# Altium footprint library AMP Footprints.PcbLib: 903 footprints (part 1 of 58)
Each footprint in its own frame and in the unit in brackets; x right, y up, seen from the top. Pads: shape width x height; smd on the part's side, far side on the other; paste and mask are expansions set on the pad; w line width, h text height; cw(c..) or ccw(c..) is an arc to the next point about the centre after c.
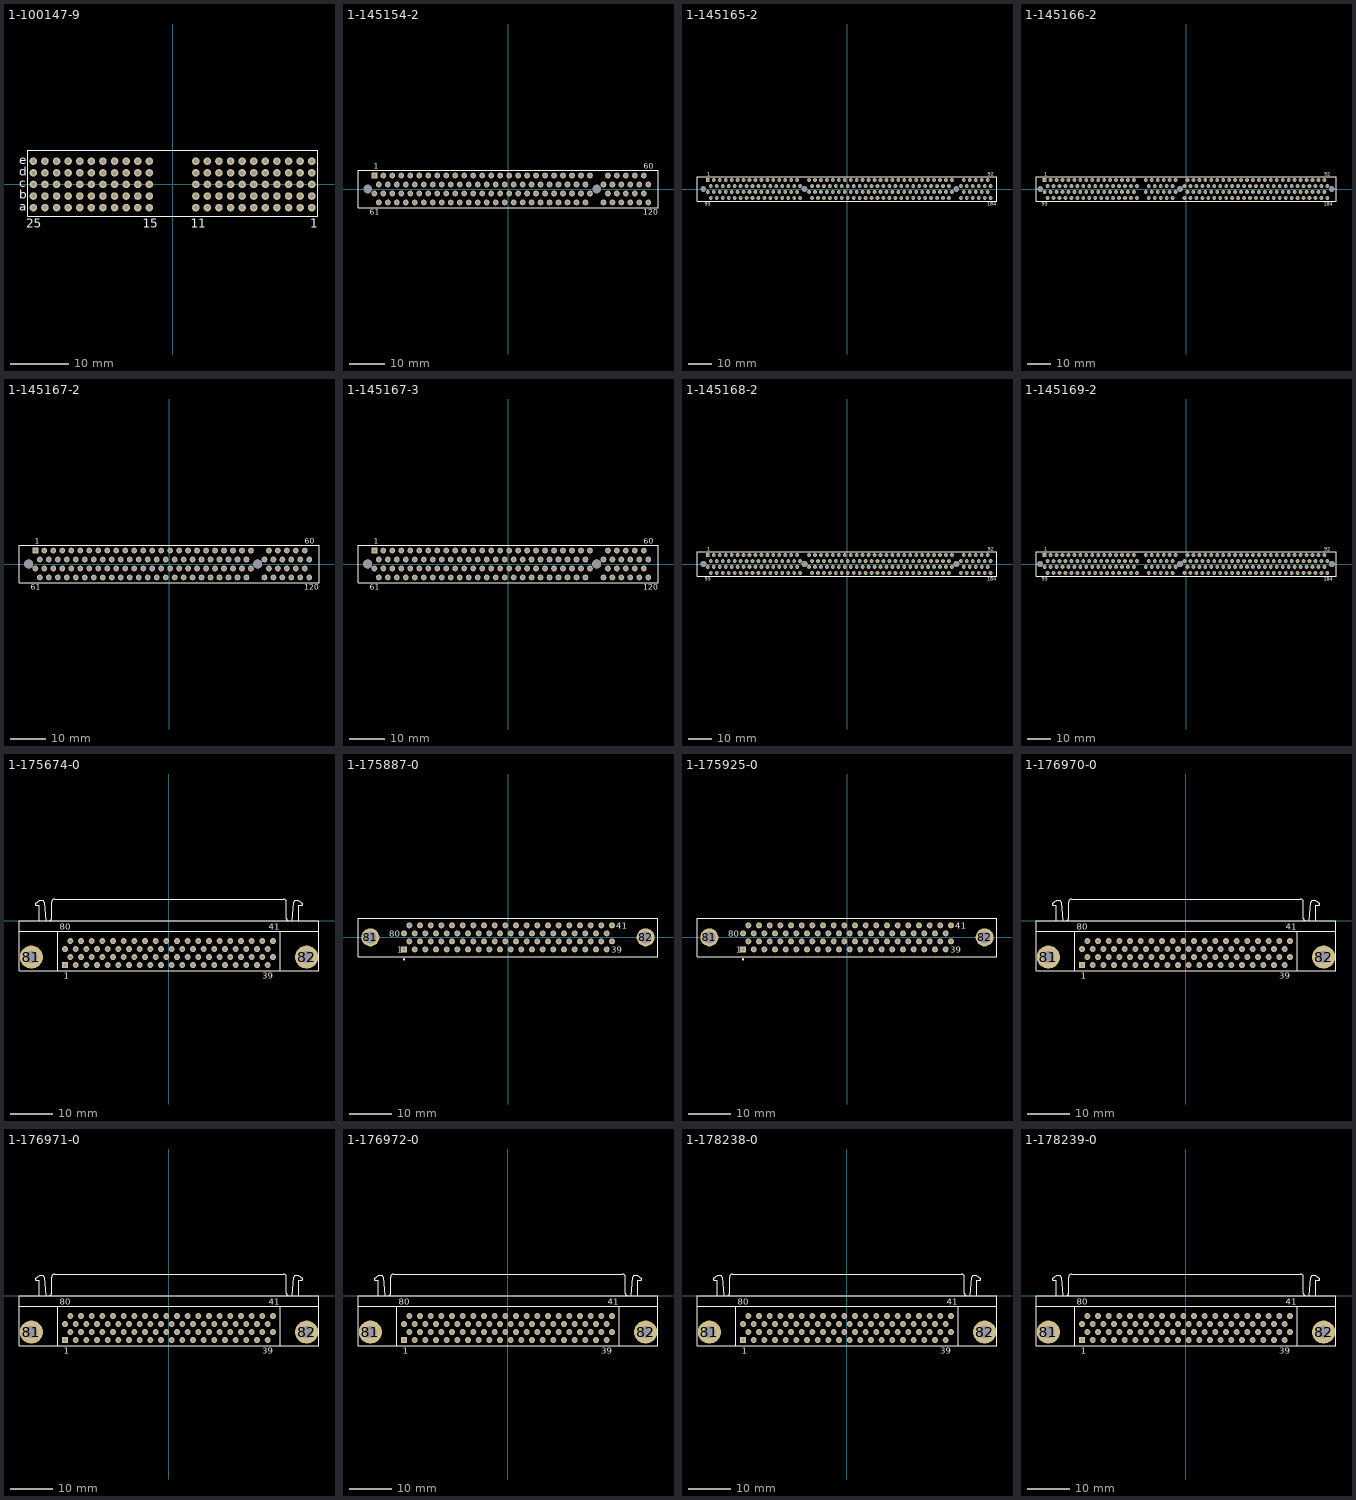
[diagram p0: the footprints below, top view; thin cyan lines are the x and y axes]

## 1-100147-9 [mm] "Connector; CompactPCI; 110 Position; Right Angle"
height 8.125
pads (110):
  round 1.3 hole 0.7: A1(24,-4) A2(22,-4) A3(20,-4) A4(18,-4) A5(16,-4) A6(14,-4) A7(12,-4) A8(10,-4) A9(8,-4) A10(6,-4) A11(4,-4) A15(-4,-4) A16(-6,-4) A17(-8,-4) A18(-10,-4) A19(-12,-4) A20(-14,-4) A21(-16,-4) A22(-18,-4) A23(-20,-4) A24(-22,-4) A25(-24,-4) B1(24,-2) B2(22,-2) B3(20,-2) B4(18,-2) B5(16,-2) B6(14,-2) B7(12,-2) B8(10,-2) B9(8,-2) B10(6,-2) B11(4,-2) B15(-4,-2) B16(-6,-2) B17(-8,-2) B18(-10,-2) B19(-12,-2) B20(-14,-2) B21(-16,-2) B22(-18,-2) B23(-20,-2) B24(-22,-2) B25(-24,-2) C1(24,0) C2(22,0) C3(20,0) C4(18,0) C5(16,0) C6(14,0) C7(12,0) C8(10,0) C9(8,0) C10(6,0) C11(4,0) C15(-4,0) C16(-6,0) C17(-8,0) C18(-10,0) C19(-12,0) C20(-14,0) C21(-16,0) C22(-18,0) C23(-20,0) C24(-22,0) C25(-24,0) D1(24,2) D2(22,2) D3(20,2) D4(18,2) D5(16,2) D6(14,2) D7(12,2) D8(10,2) D9(8,2) D10(6,2) D11(4,2) D15(-4,2) D16(-6,2) D17(-8,2) D18(-10,2) D19(-12,2) D20(-14,2) D21(-16,2) D22(-18,2) D23(-20,2) D24(-22,2) D25(-24,2) E1(24,4) E2(22,4) E3(20,4) E4(18,4) E5(16,4) E6(14,4) E7(12,4) E8(10,4) E9(8,4) E10(6,4) E11(4,4) E15(-4,4) E16(-6,4) E17(-8,4) E18(-10,4) E19(-12,4) E20(-14,4) E21(-16,4) E22(-18,4) E23(-20,4) E24(-22,4) E25(-24,4)
Top Overlay:
  lines w0.2: -25,-5.5 -25,5.9 25,5.9 25,-5.5 -25,-5.5
  text "25" at -25.25,-7.475 h1.5
  text "15" at -5.125,-7.475 h1.5
  text "11" at 3.125,-7.475 h1.5
  text "1" at 23.75,-7.475 h1.5
  text "a" at -26.475,-4.5 h1.5
  text "b" at -26.475,-2.5 h1.5
  text "c" at -26.475,-0.5 h1.5
  text "d" at -26.475,1.5 h1.5
  text "e" at -26.475,3.5 h1.5

## 1-145154-2 [mm] "Connector; Card Edge .050 Series PCI; 2x60 Position; 32-Bit Bus"
height 15.74
pads (122):
  rect 1.62x1.62 hole 1.02: 1(-37.782,3.81)
  round 1.62 hole 1.02: 2(-36.512,1.27) 3(-35.242,3.81) 4(-33.972,1.27) 5(-32.703,3.81) 6(-31.432,1.27) 7(-30.162,3.81) 8(-28.892,1.27) 9(-27.622,3.81) 10(-26.352,1.27) 11(-25.082,3.81) 12(-23.812,1.27) 13(-22.543,3.81) 14(-21.273,1.27) 15(-20.002,3.81) 16(-18.732,1.27) 17(-17.462,3.81) 18(-16.192,1.27) 19(-14.922,3.81) 20(-13.652,1.27) 21(-12.383,3.81) 22(-11.112,1.27) 23(-9.842,3.81) 24(-8.572,1.27) 25(-7.302,3.81) 26(-6.032,1.27) 27(-4.763,3.81) 28(-3.492,1.27) 29(-2.222,3.81) 30(-0.953,1.27) 31(0.318,3.81) 32(1.587,1.27) 33(2.857,3.81) 34(4.127,1.27) 35(5.397,3.81) 36(6.667,1.27) 37(7.938,3.81) 38(9.207,1.27) 39(10.477,3.81) 40(11.747,1.27) 41(13.018,3.81) 42(14.287,1.27) 43(15.557,3.81) 44(16.828,1.27) 45(18.098,3.81) 46(19.367,1.27) 47(20.637,3.81) 48(21.907,1.27) 49(23.177,3.81) 50(26.987,1.27) 51(28.258,3.81) 52(29.527,1.27) 53(30.797,3.81) 54(32.067,1.27) 55(33.337,3.81) 56(34.608,1.27) 57(35.877,3.81) 58(37.148,1.27) 59(38.417,3.81) 60(39.688,1.27) 61(-37.782,-1.27) 62(-36.512,-3.81) 63(-35.242,-1.27) 64(-33.972,-3.81) 65(-32.703,-1.27) 66(-31.432,-3.81) 67(-30.162,-1.27) 68(-28.892,-3.81) 69(-27.622,-1.27) 70(-26.352,-3.81) 71(-25.082,-1.27) 72(-23.812,-3.81) 73(-22.543,-1.27) 74(-21.273,-3.81) 75(-20.002,-1.27) 76(-18.732,-3.81) 77(-17.462,-1.27) 78(-16.192,-3.81) 79(-14.922,-1.27) 80(-13.652,-3.81) 81(-12.383,-1.27) 82(-11.112,-3.81) 83(-9.842,-1.27) 84(-8.572,-3.81) 85(-7.302,-1.27) 86(-6.032,-3.81) 87(-4.763,-1.27) 88(-3.492,-3.81) 89(-2.222,-1.27) 90(-0.953,-3.81) 91(0.318,-1.27) 92(1.587,-3.81) 93(2.857,-1.27) 94(4.127,-3.81) 95(5.397,-1.27) 96(6.667,-3.81) 97(7.938,-1.27) 98(9.207,-3.81) 99(10.477,-1.27) 100(11.747,-3.81) 101(13.018,-1.27) 102(14.287,-3.81) 103(15.557,-1.27) 104(16.828,-3.81) 105(18.098,-1.27) 106(19.367,-3.81) 107(20.637,-1.27) 108(21.907,-3.81) 109(23.177,-1.27) 110(26.987,-3.81) 111(28.258,-1.27) 112(29.527,-3.81) 113(30.797,-1.27) 114(32.067,-3.81) 115(33.337,-1.27) 116(34.608,-3.81) 117(35.877,-1.27) 118(37.148,-3.81) 119(38.417,-1.27) 120(39.688,-3.81)
  round 2.14 hole 2.44: 121(-39.688,0) 122(25.082,0)
Top Overlay:
  lines w0.2: -42.42,-5.26 -42.42,5.26 42.42,5.26 42.42,-5.26 -42.42,-5.26
  text "61" at -39.033,-7.235 h1.5
  text "1" at -38.032,5.735 h1.5
  text "60" at 38.437,5.735 h1.5
  text "120" at 38.188,-7.235 h1.5

## 1-145165-2 [mm] "Connector; Card Edge .050 Series PCI; 2x92 Position; 64-Bit Bus"
height 15.74
pads (187):
  rect 1.62x1.62 hole 1.02: 1(-59.372,3.81)
  round 1.62 hole 1.02: 2(-58.102,1.27) 3(-56.832,3.81) 4(-55.562,1.27) 5(-54.292,3.81) 6(-53.023,1.27) 7(-51.752,3.81) 8(-50.482,1.27) 9(-49.212,3.81) 10(-47.942,1.27) 11(-46.672,3.81) 12(-45.402,1.27) 13(-44.133,3.81) 14(-42.862,1.27) 15(-41.593,3.81) 16(-40.322,1.27) 17(-39.052,3.81) 18(-37.782,1.27) 19(-36.512,3.81) 20(-35.242,1.27) 21(-33.972,3.81) 22(-32.703,1.27) 23(-31.432,3.81) 24(-30.162,1.27) 25(-28.892,3.81) 26(-27.622,1.27) 27(-26.352,3.81) 28(-25.082,1.27) 29(-23.812,3.81) 30(-22.543,1.27) 31(-21.273,3.81) 32(-20.002,1.27) 33(-16.192,3.81) 34(-14.922,1.27) 35(-13.652,3.81) 36(-12.383,1.27) 37(-11.112,3.81) 38(-9.842,1.27) 39(-8.572,3.81) 40(-7.302,1.27) 41(-6.032,3.81) 42(-4.763,1.27) 43(-3.492,3.81) 44(-2.222,1.27) 45(-0.953,3.81) 46(0.318,1.27) 47(1.587,3.81) 48(2.857,1.27) 49(4.127,3.81) 50(5.397,1.27) 51(6.667,3.81) 52(7.938,1.27) 53(9.207,3.81) 54(10.477,1.27) 55(11.747,3.81) 56(13.018,1.27) 57(14.287,3.81) 58(15.557,1.27) 59(16.828,3.81) 60(18.098,1.27) 61(19.367,3.81) 62(20.637,1.27) 63(21.907,3.81) 64(23.177,1.27) 65(24.447,3.81) 66(25.717,1.27) 67(26.987,3.81) 68(28.258,1.27) 69(29.527,3.81) 70(30.797,1.27) 71(32.067,3.81) 72(33.337,1.27) 73(34.608,3.81) 74(35.877,1.27) 75(37.148,3.81) 76(38.417,1.27) 77(39.688,3.81) 78(40.957,1.27) 79(42.227,3.81) 80(43.497,1.27) 81(44.767,3.81) 82(48.578,1.27) 83(49.847,3.81) 84(51.117,1.27) 85(52.387,3.81) 86(53.657,1.27) 87(54.927,3.81) 88(56.197,1.27) 89(57.468,3.81) 90(58.737,1.27) 91(60.008,3.81) 92(61.277,1.27) 93(-59.372,-1.27) 94(-58.102,-3.81) 95(-56.832,-1.27) 96(-55.562,-3.81) 97(-54.292,-1.27) 98(-53.023,-3.81) 99(-51.752,-1.27) 100(-50.482,-3.81) 101(-49.212,-1.27) 102(-47.942,-3.81) 103(-46.672,-1.27) 104(-45.402,-3.81) 105(-44.133,-1.27) 106(-42.862,-3.81) 107(-41.593,-1.27) 108(-40.322,-3.81) 109(-39.052,-1.27) 110(-37.782,-3.81) 111(-36.512,-1.27) 112(-35.242,-3.81) 113(-33.972,-1.27) 114(-32.703,-3.81) 115(-31.432,-1.27) 116(-30.162,-3.81) 117(-28.892,-1.27) 118(-27.622,-3.81) 119(-26.352,-1.27) 120(-25.082,-3.81) 121(-23.812,-1.27) 122(-22.543,-3.81) 123(-21.273,-1.27) 124(-20.002,-3.81) 125(-16.192,-1.27) 126(-14.922,-3.81) 127(-13.652,-1.27) 128(-12.383,-3.81) 129(-11.112,-1.27) 130(-9.842,-3.81) 131(-8.572,-1.27) 132(-7.302,-3.81) 133(-6.032,-1.27) 134(-4.763,-3.81) 135(-3.492,-1.27) 136(-2.222,-3.81) 137(-0.953,-1.27) 138(0.318,-3.81) 139(1.587,-1.27) 140(2.857,-3.81) 141(4.127,-1.27) 142(5.397,-3.81) 143(6.667,-1.27) 144(7.938,-3.81) 145(9.207,-1.27) 146(10.477,-3.81) 147(11.747,-1.27) 148(13.018,-3.81) 149(14.287,-1.27) 150(15.557,-3.81) 151(16.828,-1.27) 152(18.098,-3.81) 153(19.367,-1.27) 154(20.637,-3.81) 155(21.907,-1.27) 156(23.177,-3.81) 157(24.447,-1.27) 158(25.717,-3.81) 159(26.987,-1.27) 160(28.258,-3.81) 161(29.527,-1.27) 162(30.797,-3.81) 163(32.067,-1.27) 164(33.337,-3.81) 165(34.608,-1.27) 166(35.877,-3.81) 167(37.148,-1.27) 168(38.417,-3.81) 169(39.688,-1.27) 170(40.957,-3.81) 171(42.227,-1.27) 172(43.497,-3.81) 173(44.767,-1.27) 174(48.578,-3.81) 175(49.847,-1.27) 176(51.117,-3.81) 177(52.387,-1.27) 178(53.657,-3.81) 179(54.927,-1.27) 180(56.197,-3.81) 181(57.468,-1.27) 182(58.737,-3.81) 183(60.008,-1.27) 184(61.277,-3.81)
  round 2.14 hole 2.44: 185(-61.277,0) 186(-18.098,0) 187(46.672,0)
Top Overlay:
  lines w0.2: -64,-5.26 -64,5.26 64,5.26 64,-5.26 -64,-5.26
  text "92" at 60.027,5.735 h1.5
  text "184" at 59.778,-7.235 h1.5
  text "93" at -60.623,-7.235 h1.5
  text "1" at -59.622,5.735 h1.5

## 1-145166-2 [mm] "Connector; Card Edge .050 Series PCI; 2x92 Position; 64-Bit Bus"
height 15.74
pads (187):
  rect 1.62x1.62 hole 1.02: 1(-60.325,3.81)
  round 1.62 hole 1.02: 2(-59.055,1.27) 3(-57.785,3.81) 4(-56.515,1.27) 5(-55.245,3.81) 6(-53.975,1.27) 7(-52.705,3.81) 8(-51.435,1.27) 9(-50.165,3.81) 10(-48.895,1.27) 11(-47.625,3.81) 12(-46.355,1.27) 13(-45.085,3.81) 14(-43.815,1.27) 15(-42.545,3.81) 16(-41.275,1.27) 17(-40.005,3.81) 18(-38.735,1.27) 19(-37.465,3.81) 20(-36.195,1.27) 21(-34.925,3.81) 22(-33.655,1.27) 23(-32.385,3.81) 24(-31.115,1.27) 25(-29.845,3.81) 26(-28.575,1.27) 27(-27.305,3.81) 28(-26.035,1.27) 29(-24.765,3.81) 30(-23.495,1.27) 31(-22.225,3.81) 32(-20.955,1.27) 33(-17.145,3.81) 34(-15.875,1.27) 35(-14.605,3.81) 36(-13.335,1.27) 37(-12.065,3.81) 38(-10.795,1.27) 39(-9.525,3.81) 40(-8.255,1.27) 41(-6.985,3.81) 42(-5.715,1.27) 43(-4.445,3.81) 44(-0.635,1.27) 45(0.635,3.81) 46(1.905,1.27) 47(3.175,3.81) 48(4.445,1.27) 49(5.715,3.81) 50(6.985,1.27) 51(8.255,3.81) 52(9.525,1.27) 53(10.795,3.81) 54(12.065,1.27) 55(13.335,3.81) 56(14.605,1.27) 57(15.875,3.81) 58(17.145,1.27) 59(18.415,3.81) 60(19.685,1.27) 61(20.955,3.81) 62(22.225,1.27) 63(23.495,3.81) 64(24.765,1.27) 65(26.035,3.81) 66(27.305,1.27) 67(28.575,3.81) 68(29.845,1.27) 69(31.115,3.81) 70(32.385,1.27) 71(33.655,3.81) 72(34.925,1.27) 73(36.195,3.81) 74(37.465,1.27) 75(38.735,3.81) 76(40.005,1.27) 77(41.275,3.81) 78(42.545,1.27) 79(43.815,3.81) 80(45.085,1.27) 81(46.355,3.81) 82(47.625,1.27) 83(48.895,3.81) 84(50.165,1.27) 85(51.435,3.81) 86(52.705,1.27) 87(53.975,3.81) 88(55.245,1.27) 89(56.515,3.81) 90(57.785,1.27) 91(59.055,3.81) 92(60.325,1.27) 93(-60.325,-1.27) 94(-59.055,-3.81) 95(-57.785,-1.27) 96(-56.515,-3.81) 97(-55.245,-1.27) 98(-53.975,-3.81) 99(-52.705,-1.27) 100(-51.435,-3.81) 101(-50.165,-1.27) 102(-48.895,-3.81) 103(-47.625,-1.27) 104(-46.355,-3.81) 105(-45.085,-1.27) 106(-43.815,-3.81) 107(-42.545,-1.27) 108(-41.275,-3.81) 109(-40.005,-1.27) 110(-38.735,-3.81) 111(-37.465,-1.27) 112(-36.195,-3.81) 113(-34.925,-1.27) 114(-33.655,-3.81) 115(-32.385,-1.27) 116(-31.115,-3.81) 117(-29.845,-1.27) 118(-28.575,-3.81) 119(-27.305,-1.27) 120(-26.035,-3.81) 121(-24.765,-1.27) 122(-23.495,-3.81) 123(-22.225,-1.27) 124(-20.955,-3.81) 125(-17.145,-1.27) 126(-15.875,-3.81) 127(-14.605,-1.27) 128(-13.335,-3.81) 129(-12.065,-1.27) 130(-10.795,-3.81) 131(-9.525,-1.27) 132(-8.255,-3.81) 133(-6.985,-1.27) 134(-5.715,-3.81) 135(-4.445,-1.27) 136(-0.635,-3.81) 137(0.635,-1.27) 138(1.905,-3.81) 139(3.175,-1.27) 140(4.445,-3.81) 141(5.715,-1.27) 142(6.985,-3.81) 143(8.255,-1.27) 144(9.525,-3.81) 145(10.795,-1.27) 146(12.065,-3.81) 147(13.335,-1.27) 148(14.605,-3.81) 149(15.875,-1.27) 150(17.145,-3.81) 151(18.415,-1.27) 152(19.685,-3.81) 153(20.955,-1.27) 154(22.225,-3.81) 155(23.495,-1.27) 156(24.765,-3.81) 157(26.035,-1.27) 158(27.305,-3.81) 159(28.575,-1.27) 160(29.845,-3.81) 161(31.115,-1.27) 162(32.385,-3.81) 163(33.655,-1.27) 164(34.925,-3.81) 165(36.195,-1.27) 166(37.465,-3.81) 167(38.735,-1.27) 168(40.005,-3.81) 169(41.275,-1.27) 170(42.545,-3.81) 171(43.815,-1.27) 172(45.085,-3.81) 173(46.355,-1.27) 174(47.625,-3.81) 175(48.895,-1.27) 176(50.165,-3.81) 177(51.435,-1.27) 178(52.705,-3.81) 179(53.975,-1.27) 180(55.245,-3.81) 181(56.515,-1.27) 182(57.785,-3.81) 183(59.055,-1.27) 184(60.325,-3.81)
  round 2.14 hole 2.44: 185(-62.23,0) 186(-2.54,0) 187(62.23,0)
Top Overlay:
  lines w0.2: -64.01,-5.26 64.01,-5.26 64.01,5.26 -64.01,5.26 -64.01,-5.26
  text "92" at 59.075,5.735 h1.5
  text "184" at 58.825,-7.235 h1.5
  text "93" at -61.575,-7.235 h1.5
  text "1" at -60.575,5.735 h1.5

## 1-145167-2 [mm] "Connector; Card Edge .050 Series PCI; 2x60 Position; 32-Bit Bus"
height 15.74
pads (122):
  rect 1.62x1.62 hole 1.02: 1(-37.782,3.81)
  round 1.62 hole 1.02: 2(-36.512,1.27) 3(-35.242,3.81) 4(-33.972,1.27) 5(-32.703,3.81) 6(-31.432,1.27) 7(-30.162,3.81) 8(-28.892,1.27) 9(-27.622,3.81) 10(-26.352,1.27) 11(-25.082,3.81) 12(-23.812,1.27) 13(-22.543,3.81) 14(-21.273,1.27) 15(-20.002,3.81) 16(-18.732,1.27) 17(-17.462,3.81) 18(-16.192,1.27) 19(-14.922,3.81) 20(-13.652,1.27) 21(-12.383,3.81) 22(-11.112,1.27) 23(-9.842,3.81) 24(-8.572,1.27) 25(-7.302,3.81) 26(-6.032,1.27) 27(-4.763,3.81) 28(-3.492,1.27) 29(-2.222,3.81) 30(-0.953,1.27) 31(0.318,3.81) 32(1.587,1.27) 33(2.857,3.81) 34(4.127,1.27) 35(5.397,3.81) 36(6.667,1.27) 37(7.938,3.81) 38(9.207,1.27) 39(10.477,3.81) 40(11.747,1.27) 41(13.018,3.81) 42(14.287,1.27) 43(15.557,3.81) 44(16.828,1.27) 45(18.098,3.81) 46(19.367,1.27) 47(20.637,3.81) 48(21.907,1.27) 49(23.177,3.81) 50(26.987,1.27) 51(28.258,3.81) 52(29.527,1.27) 53(30.797,3.81) 54(32.067,1.27) 55(33.337,3.81) 56(34.608,1.27) 57(35.877,3.81) 58(37.148,1.27) 59(38.417,3.81) 60(39.688,1.27) 61(-37.782,-1.27) 62(-36.512,-3.81) 63(-35.242,-1.27) 64(-33.972,-3.81) 65(-32.703,-1.27) 66(-31.432,-3.81) 67(-30.162,-1.27) 68(-28.892,-3.81) 69(-27.622,-1.27) 70(-26.352,-3.81) 71(-25.082,-1.27) 72(-23.812,-3.81) 73(-22.543,-1.27) 74(-21.273,-3.81) 75(-20.002,-1.27) 76(-18.732,-3.81) 77(-17.462,-1.27) 78(-16.192,-3.81) 79(-14.922,-1.27) 80(-13.652,-3.81) 81(-12.383,-1.27) 82(-11.112,-3.81) 83(-9.842,-1.27) 84(-8.572,-3.81) 85(-7.302,-1.27) 86(-6.032,-3.81) 87(-4.763,-1.27) 88(-3.492,-3.81) 89(-2.222,-1.27) 90(-0.953,-3.81) 91(0.318,-1.27) 92(1.587,-3.81) 93(2.857,-1.27) 94(4.127,-3.81) 95(5.397,-1.27) 96(6.667,-3.81) 97(7.938,-1.27) 98(9.207,-3.81) 99(10.477,-1.27) 100(11.747,-3.81) 101(13.018,-1.27) 102(14.287,-3.81) 103(15.557,-1.27) 104(16.828,-3.81) 105(18.098,-1.27) 106(19.367,-3.81) 107(20.637,-1.27) 108(21.907,-3.81) 109(23.177,-1.27) 110(26.987,-3.81) 111(28.258,-1.27) 112(29.527,-3.81) 113(30.797,-1.27) 114(32.067,-3.81) 115(33.337,-1.27) 116(34.608,-3.81) 117(35.877,-1.27) 118(37.148,-3.81) 119(38.417,-1.27) 120(39.688,-3.81)
  round 2.55 hole 2.44: 121(-39.688,0) 122(25.082,0)
Top Overlay:
  lines w0.2: -42.42,-5.26 -42.42,5.26 42.42,5.26 42.42,-5.26 -42.42,-5.26
  text "61" at -39.033,-7.235 h1.5
  text "1" at -38.032,5.735 h1.5
  text "60" at 38.437,5.735 h1.5
  text "120" at 38.188,-7.235 h1.5

## 1-145167-3 [mm] "Connector; Card Edge .050 Series PCI; 2x60 Position; 32-Bit Bus"
height 15.74
pads (122):
  rect 1.62x1.62 hole 1.02: 1(-37.782,3.81)
  round 1.62 hole 1.02: 2(-36.512,1.27) 3(-35.242,3.81) 4(-33.972,1.27) 5(-32.703,3.81) 6(-31.432,1.27) 7(-30.162,3.81) 8(-28.892,1.27) 9(-27.622,3.81) 10(-26.352,1.27) 11(-25.082,3.81) 12(-23.812,1.27) 13(-22.543,3.81) 14(-21.273,1.27) 15(-20.002,3.81) 16(-18.732,1.27) 17(-17.462,3.81) 18(-16.192,1.27) 19(-14.922,3.81) 20(-13.652,1.27) 21(-12.383,3.81) 22(-11.112,1.27) 23(-9.842,3.81) 24(-8.572,1.27) 25(-7.302,3.81) 26(-6.032,1.27) 27(-4.763,3.81) 28(-3.492,1.27) 29(-2.222,3.81) 30(-0.953,1.27) 31(0.318,3.81) 32(1.587,1.27) 33(2.857,3.81) 34(4.127,1.27) 35(5.397,3.81) 36(6.667,1.27) 37(7.938,3.81) 38(9.207,1.27) 39(10.477,3.81) 40(11.747,1.27) 41(13.018,3.81) 42(14.287,1.27) 43(15.557,3.81) 44(16.828,1.27) 45(18.098,3.81) 46(19.367,1.27) 47(20.637,3.81) 48(21.907,1.27) 49(23.177,3.81) 50(26.987,1.27) 51(28.258,3.81) 52(29.527,1.27) 53(30.797,3.81) 54(32.067,1.27) 55(33.337,3.81) 56(34.608,1.27) 57(35.877,3.81) 58(37.148,1.27) 59(38.417,3.81) 60(39.688,1.27) 61(-37.782,-1.27) 62(-36.512,-3.81) 63(-35.242,-1.27) 64(-33.972,-3.81) 65(-32.703,-1.27) 66(-31.432,-3.81) 67(-30.162,-1.27) 68(-28.892,-3.81) 69(-27.622,-1.27) 70(-26.352,-3.81) 71(-25.082,-1.27) 72(-23.812,-3.81) 73(-22.543,-1.27) 74(-21.273,-3.81) 75(-20.002,-1.27) 76(-18.732,-3.81) 77(-17.462,-1.27) 78(-16.192,-3.81) 79(-14.922,-1.27) 80(-13.652,-3.81) 81(-12.383,-1.27) 82(-11.112,-3.81) 83(-9.842,-1.27) 84(-8.572,-3.81) 85(-7.302,-1.27) 86(-6.032,-3.81) 87(-4.763,-1.27) 88(-3.492,-3.81) 89(-2.222,-1.27) 90(-0.953,-3.81) 91(0.318,-1.27) 92(1.587,-3.81) 93(2.857,-1.27) 94(4.127,-3.81) 95(5.397,-1.27) 96(6.667,-3.81) 97(7.938,-1.27) 98(9.207,-3.81) 99(10.477,-1.27) 100(11.747,-3.81) 101(13.018,-1.27) 102(14.287,-3.81) 103(15.557,-1.27) 104(16.828,-3.81) 105(18.098,-1.27) 106(19.367,-3.81) 107(20.637,-1.27) 108(21.907,-3.81) 109(23.177,-1.27) 110(26.987,-3.81) 111(28.258,-1.27) 112(29.527,-3.81) 113(30.797,-1.27) 114(32.067,-3.81) 115(33.337,-1.27) 116(34.608,-3.81) 117(35.877,-1.27) 118(37.148,-3.81) 119(38.417,-1.27) 120(39.688,-3.81)
  round 2.55 hole 2.44: 121(-39.688,0) 122(25.082,0)
Top Overlay:
  lines w0.2: -42.42,-5.26 42.42,-5.26 42.42,5.26 -42.42,5.26 -42.42,-5.26
  text "120" at 38.188,-7.235 h1.5
  text "60" at 38.437,5.735 h1.5
  text "1" at -38.032,5.735 h1.5
  text "61" at -39.033,-7.235 h1.5

## 1-145168-2 [mm] "Connector; Card Edge .050 Series PCI; 2x92 Position; 64-Bit Bus"
height 15.74
pads (187):
  rect 1.62x1.62 hole 1.02: 1(-59.372,3.81)
  round 1.62 hole 1.02: 2(-58.102,1.27) 3(-56.832,3.81) 4(-55.562,1.27) 5(-54.292,3.81) 6(-53.023,1.27) 7(-51.752,3.81) 8(-50.482,1.27) 9(-49.212,3.81) 10(-47.942,1.27) 11(-46.672,3.81) 12(-45.402,1.27) 13(-44.133,3.81) 14(-42.862,1.27) 15(-41.593,3.81) 16(-40.322,1.27) 17(-39.052,3.81) 18(-37.782,1.27) 19(-36.512,3.81) 20(-35.242,1.27) 21(-33.972,3.81) 22(-32.703,1.27) 23(-31.432,3.81) 24(-30.162,1.27) 25(-28.892,3.81) 26(-27.622,1.27) 27(-26.352,3.81) 28(-25.082,1.27) 29(-23.812,3.81) 30(-22.543,1.27) 31(-21.273,3.81) 32(-20.002,1.27) 33(-16.192,3.81) 34(-14.922,1.27) 35(-13.652,3.81) 36(-12.383,1.27) 37(-11.112,3.81) 38(-9.842,1.27) 39(-8.572,3.81) 40(-7.302,1.27) 41(-6.032,3.81) 42(-4.763,1.27) 43(-3.492,3.81) 44(-2.222,1.27) 45(-0.953,3.81) 46(0.318,1.27) 47(1.587,3.81) 48(2.857,1.27) 49(4.127,3.81) 50(5.397,1.27) 51(6.667,3.81) 52(7.938,1.27) 53(9.207,3.81) 54(10.477,1.27) 55(11.747,3.81) 56(13.018,1.27) 57(14.287,3.81) 58(15.557,1.27) 59(16.828,3.81) 60(18.098,1.27) 61(19.367,3.81) 62(20.637,1.27) 63(21.907,3.81) 64(23.177,1.27) 65(24.447,3.81) 66(25.717,1.27) 67(26.987,3.81) 68(28.258,1.27) 69(29.527,3.81) 70(30.797,1.27) 71(32.067,3.81) 72(33.337,1.27) 73(34.608,3.81) 74(35.877,1.27) 75(37.148,3.81) 76(38.417,1.27) 77(39.688,3.81) 78(40.957,1.27) 79(42.227,3.81) 80(43.497,1.27) 81(44.767,3.81) 82(48.578,1.27) 83(49.847,3.81) 84(51.117,1.27) 85(52.387,3.81) 86(53.657,1.27) 87(54.927,3.81) 88(56.197,1.27) 89(57.468,3.81) 90(58.737,1.27) 91(60.008,3.81) 92(61.277,1.27) 93(-59.372,-1.27) 94(-58.102,-3.81) 95(-56.832,-1.27) 96(-55.562,-3.81) 97(-54.292,-1.27) 98(-53.023,-3.81) 99(-51.752,-1.27) 100(-50.482,-3.81) 101(-49.212,-1.27) 102(-47.942,-3.81) 103(-46.672,-1.27) 104(-45.402,-3.81) 105(-44.133,-1.27) 106(-42.862,-3.81) 107(-41.593,-1.27) 108(-40.322,-3.81) 109(-39.052,-1.27) 110(-37.782,-3.81) 111(-36.512,-1.27) 112(-35.242,-3.81) 113(-33.972,-1.27) 114(-32.703,-3.81) 115(-31.432,-1.27) 116(-30.162,-3.81) 117(-28.892,-1.27) 118(-27.622,-3.81) 119(-26.352,-1.27) 120(-25.082,-3.81) 121(-23.812,-1.27) 122(-22.543,-3.81) 123(-21.273,-1.27) 124(-20.002,-3.81) 125(-16.192,-1.27) 126(-14.922,-3.81) 127(-13.652,-1.27) 128(-12.383,-3.81) 129(-11.112,-1.27) 130(-9.842,-3.81) 131(-8.572,-1.27) 132(-7.302,-3.81) 133(-6.032,-1.27) 134(-4.763,-3.81) 135(-3.492,-1.27) 136(-2.222,-3.81) 137(-0.953,-1.27) 138(0.318,-3.81) 139(1.587,-1.27) 140(2.857,-3.81) 141(4.127,-1.27) 142(5.397,-3.81) 143(6.667,-1.27) 144(7.938,-3.81) 145(9.207,-1.27) 146(10.477,-3.81) 147(11.747,-1.27) 148(13.018,-3.81) 149(14.287,-1.27) 150(15.557,-3.81) 151(16.828,-1.27) 152(18.098,-3.81) 153(19.367,-1.27) 154(20.637,-3.81) 155(21.907,-1.27) 156(23.177,-3.81) 157(24.447,-1.27) 158(25.717,-3.81) 159(26.987,-1.27) 160(28.258,-3.81) 161(29.527,-1.27) 162(30.797,-3.81) 163(32.067,-1.27) 164(33.337,-3.81) 165(34.608,-1.27) 166(35.877,-3.81) 167(37.148,-1.27) 168(38.417,-3.81) 169(39.688,-1.27) 170(40.957,-3.81) 171(42.227,-1.27) 172(43.497,-3.81) 173(44.767,-1.27) 174(48.578,-3.81) 175(49.847,-1.27) 176(51.117,-3.81) 177(52.387,-1.27) 178(53.657,-3.81) 179(54.927,-1.27) 180(56.197,-3.81) 181(57.468,-1.27) 182(58.737,-3.81) 183(60.008,-1.27) 184(61.277,-3.81)
  round 2.56 hole 2.44: 185(-61.277,0) 186(-18.098,0) 187(46.672,0)
Top Overlay:
  lines w0.2: -64,-5.26 -64,5.26 64,5.26 64,-5.26 -64,-5.26
  text "92" at 60.027,5.735 h1.5
  text "184" at 59.778,-7.235 h1.5
  text "93" at -60.623,-7.235 h1.5
  text "1" at -59.622,5.735 h1.5

## 1-145169-2 [mm] "Connector; Card Edge .050 Series PCI; 2x92 Position; 64-Bit Bus"
height 15.74
pads (187):
  rect 1.62x1.62 hole 1.02: 1(-60.325,3.81)
  round 1.62 hole 1.02: 2(-59.055,1.27) 3(-57.785,3.81) 4(-56.515,1.27) 5(-55.245,3.81) 6(-53.975,1.27) 7(-52.705,3.81) 8(-51.435,1.27) 9(-50.165,3.81) 10(-48.895,1.27) 11(-47.625,3.81) 12(-46.355,1.27) 13(-45.085,3.81) 14(-43.815,1.27) 15(-42.545,3.81) 16(-41.275,1.27) 17(-40.005,3.81) 18(-38.735,1.27) 19(-37.465,3.81) 20(-36.195,1.27) 21(-34.925,3.81) 22(-33.655,1.27) 23(-32.385,3.81) 24(-31.115,1.27) 25(-29.845,3.81) 26(-28.575,1.27) 27(-27.305,3.81) 28(-26.035,1.27) 29(-24.765,3.81) 30(-23.495,1.27) 31(-22.225,3.81) 32(-20.955,1.27) 33(-17.145,3.81) 34(-15.875,1.27) 35(-14.605,3.81) 36(-13.335,1.27) 37(-12.065,3.81) 38(-10.795,1.27) 39(-9.525,3.81) 40(-8.255,1.27) 41(-6.985,3.81) 42(-5.715,1.27) 43(-4.445,3.81) 44(-0.635,1.27) 45(0.635,3.81) 46(1.905,1.27) 47(3.175,3.81) 48(4.445,1.27) 49(5.715,3.81) 50(6.985,1.27) 51(8.255,3.81) 52(9.525,1.27) 53(10.795,3.81) 54(12.065,1.27) 55(13.335,3.81) 56(14.605,1.27) 57(15.875,3.81) 58(17.145,1.27) 59(18.415,3.81) 60(19.685,1.27) 61(20.955,3.81) 62(22.225,1.27) 63(23.495,3.81) 64(24.765,1.27) 65(26.035,3.81) 66(27.305,1.27) 67(28.575,3.81) 68(29.845,1.27) 69(31.115,3.81) 70(32.385,1.27) 71(33.655,3.81) 72(34.925,1.27) 73(36.195,3.81) 74(37.465,1.27) 75(38.735,3.81) 76(40.005,1.27) 77(41.275,3.81) 78(42.545,1.27) 79(43.815,3.81) 80(45.085,1.27) 81(46.355,3.81) 82(47.625,1.27) 83(48.895,3.81) 84(50.165,1.27) 85(51.435,3.81) 86(52.705,1.27) 87(53.975,3.81) 88(55.245,1.27) 89(56.515,3.81) 90(57.785,1.27) 91(59.055,3.81) 92(60.325,1.27) 93(-60.325,-1.27) 94(-59.055,-3.81) 95(-57.785,-1.27) 96(-56.515,-3.81) 97(-55.245,-1.27) 98(-53.975,-3.81) 99(-52.705,-1.27) 100(-51.435,-3.81) 101(-50.165,-1.27) 102(-48.895,-3.81) 103(-47.625,-1.27) 104(-46.355,-3.81) 105(-45.085,-1.27) 106(-43.815,-3.81) 107(-42.545,-1.27) 108(-41.275,-3.81) 109(-40.005,-1.27) 110(-38.735,-3.81) 111(-37.465,-1.27) 112(-36.195,-3.81) 113(-34.925,-1.27) 114(-33.655,-3.81) 115(-32.385,-1.27) 116(-31.115,-3.81) 117(-29.845,-1.27) 118(-28.575,-3.81) 119(-27.305,-1.27) 120(-26.035,-3.81) 121(-24.765,-1.27) 122(-23.495,-3.81) 123(-22.225,-1.27) 124(-20.955,-3.81) 125(-17.145,-1.27) 126(-15.875,-3.81) 127(-14.605,-1.27) 128(-13.335,-3.81) 129(-12.065,-1.27) 130(-10.795,-3.81) 131(-9.525,-1.27) 132(-8.255,-3.81) 133(-6.985,-1.27) 134(-5.715,-3.81) 135(-4.445,-1.27) 136(-0.635,-3.81) 137(0.635,-1.27) 138(1.905,-3.81) 139(3.175,-1.27) 140(4.445,-3.81) 141(5.715,-1.27) 142(6.985,-3.81) 143(8.255,-1.27) 144(9.525,-3.81) 145(10.795,-1.27) 146(12.065,-3.81) 147(13.335,-1.27) 148(14.605,-3.81) 149(15.875,-1.27) 150(17.145,-3.81) 151(18.415,-1.27) 152(19.685,-3.81) 153(20.955,-1.27) 154(22.225,-3.81) 155(23.495,-1.27) 156(24.765,-3.81) 157(26.035,-1.27) 158(27.305,-3.81) 159(28.575,-1.27) 160(29.845,-3.81) 161(31.115,-1.27) 162(32.385,-3.81) 163(33.655,-1.27) 164(34.925,-3.81) 165(36.195,-1.27) 166(37.465,-3.81) 167(38.735,-1.27) 168(40.005,-3.81) 169(41.275,-1.27) 170(42.545,-3.81) 171(43.815,-1.27) 172(45.085,-3.81) 173(46.355,-1.27) 174(47.625,-3.81) 175(48.895,-1.27) 176(50.165,-3.81) 177(51.435,-1.27) 178(52.705,-3.81) 179(53.975,-1.27) 180(55.245,-3.81) 181(56.515,-1.27) 182(57.785,-3.81) 183(59.055,-1.27) 184(60.325,-3.81)
  round 2.56 hole 2.44: 185(-62.23,0) 186(-2.54,0) 187(62.23,0)
Top Overlay:
  lines w0.2: -64.01,-5.26 -64.01,5.26 64.01,5.26 64.01,-5.26 -64.01,-5.26
  text "1" at -60.575,5.735 h1.5
  text "93" at -61.575,-7.235 h1.5
  text "184" at 58.825,-7.235 h1.5
  text "92" at 59.075,5.735 h1.5

## 1-175674-0 [mm] "Connector; CHAMP Miniature Ribbon 050 Series II; 80 Position; Right Angle"
height 9.6
pads (82):
  rect 1.4x1.4 hole 0.8: 1(-24.765,-10.5)
  round 1.4 hole 0.8: 2(-23.495,-8.595) 3(-22.225,-10.5) 4(-20.955,-8.595) 5(-19.685,-10.5) 6(-18.415,-8.595) 7(-17.145,-10.5) 8(-15.875,-8.595) 9(-14.605,-10.5) 10(-13.335,-8.595) 11(-12.065,-10.5) 12(-10.795,-8.595) 13(-9.525,-10.5) 14(-8.255,-8.595) 15(-6.985,-10.5) 16(-5.715,-8.595) 17(-4.445,-10.5) 18(-3.175,-8.595) 19(-1.905,-10.5) 20(-0.635,-8.595) 21(0.635,-10.5) 22(1.905,-8.595) 23(3.175,-10.5) 24(4.445,-8.595) 25(5.715,-10.5) 26(6.985,-8.595) 27(8.255,-10.5) 28(9.525,-8.595) 29(10.795,-10.5) 30(12.065,-8.595) 31(13.335,-10.5) 32(14.605,-8.595) 33(15.875,-10.5) 34(17.145,-8.595) 35(18.415,-10.5) 36(19.685,-8.595) 37(20.955,-10.5) 38(22.225,-8.595) 39(23.495,-10.5) 40(24.765,-8.595) 41(24.765,-4.785) 42(23.495,-6.69) 43(22.225,-4.785) 44(20.955,-6.69) 45(19.685,-4.785) 46(18.415,-6.69) 47(17.145,-4.785) 48(15.875,-6.69) 49(14.605,-4.785) 50(13.335,-6.69) 51(12.065,-4.785) 52(10.795,-6.69) 53(9.525,-4.785) 54(8.255,-6.69) 55(6.985,-4.785) 56(5.715,-6.69) 57(4.445,-4.785) 58(3.175,-6.69) 59(1.905,-4.785) 60(0.635,-6.69) 61(-0.635,-4.785) 62(-1.905,-6.69) 63(-3.175,-4.785) 64(-4.445,-6.69) 65(-5.715,-4.785) 66(-6.985,-6.69) 67(-8.255,-4.785) 68(-9.525,-6.69) 69(-10.795,-4.785) 70(-12.065,-6.69) 71(-13.335,-4.785) 72(-14.605,-6.69) 73(-15.875,-4.785) 74(-17.145,-6.69) 75(-18.415,-4.785) 76(-19.685,-6.69) 77(-20.955,-4.785) 78(-22.225,-6.69) 79(-23.495,-4.785) 80(-24.765,-6.69)
  round 5.5 hole 2.8: 81(-32.775,-8.595) 82(32.775,-8.595)
Top Overlay:
  lines w0.2: -35.725,-2.5 35.725,-2.5 ; -31.74,4.27 -30.8,4.898 -30.078,4.898 cw(c-30.18,4.5) -29.77,4.5 ; -31.726,4.255 ccw(c-31.5,4.01) -31.75,3.79 -30.87,3.79 -30.87,0 ; -29.77,4.52 -29.4,0 ; -28.66,0.005 ccw(c-28.66,0.7) -27.965,0.7 -27.965,4.5 ; -27.96,4.505 cw(c-27.265,4.505) -27.265,5.2 27.265,5.2 cw(c27.265,4.505) 27.96,4.505 ; -26.52,-11.8 -26.52,-2.58 ; 26.52,-11.8 26.52,-2.5 ; 27.965,4.5 27.965,0.7 ccw(c28.66,0.7) 28.66,0.005 ; 29.4,0 29.77,4.52 ; 29.77,4.5 cw(c30.18,4.5) 30.078,4.898 30.8,4.898 31.74,4.27 ; 30.87,0 30.87,3.79 31.75,3.79 ccw(c31.5,4.01) 31.726,4.255 ; -35.725,-11.8 35.725,-11.8 35.725,0 -35.725,0 -35.725,-11.8
  text "41" at 23.765,-2.025 h1.5
  text "80" at -26.015,-2.025 h1.5
  text "39" at 22.245,-13.775 h1.5
  text "1" at -25.015,-13.775 h1.5

## 1-175887-0 [mm] "Connector; CHAMP Miniature Ribbon 050 Series II; 80 Position; Vertical"
height 11.1
pads (82):
  rect 1.4x1.4 hole 0.8: 1(-24.765,-2.857)
  round 1.4 hole 0.8: 2(-23.495,-0.953) 3(-22.225,-2.857) 4(-20.955,-0.953) 5(-19.685,-2.857) 6(-18.415,-0.953) 7(-17.145,-2.857) 8(-15.875,-0.953) 9(-14.605,-2.857) 10(-13.335,-0.953) 11(-12.065,-2.857) 12(-10.795,-0.953) 13(-9.525,-2.857) 14(-8.255,-0.953) 15(-6.985,-2.857) 16(-5.715,-0.953) 17(-4.445,-2.857) 18(-3.175,-0.953) 19(-1.905,-2.857) 20(-0.635,-0.953) 21(0.635,-2.857) 22(1.905,-0.953) 23(3.175,-2.857) 24(4.445,-0.953) 25(5.715,-2.857) 26(6.985,-0.953) 27(8.255,-2.857) 28(9.525,-0.953) 29(10.795,-2.857) 30(12.065,-0.953) 31(13.335,-2.857) 32(14.605,-0.953) 33(15.875,-2.857) 34(17.145,-0.953) 35(18.415,-2.857) 36(19.685,-0.953) 37(20.955,-2.857) 38(22.225,-0.953) 39(23.495,-2.857) 40(24.765,-0.953) 41(24.765,2.857) 42(23.495,0.953) 43(22.225,2.857) 44(20.955,0.953) 45(19.685,2.857) 46(18.415,0.953) 47(17.145,2.857) 48(15.875,0.953) 49(14.605,2.857) 50(13.335,0.953) 51(12.065,2.857) 52(10.795,0.953) 53(9.525,2.857) 54(8.255,0.953) 55(6.985,2.857) 56(5.715,0.953) 57(4.445,2.857) 58(3.175,0.953) 59(1.905,2.857) 60(0.635,0.953) 61(-0.635,2.857) 62(-1.905,0.953) 63(-3.175,2.857) 64(-4.445,0.953) 65(-5.715,2.857) 66(-6.985,0.953) 67(-8.255,2.857) 68(-9.525,0.953) 69(-10.795,2.857) 70(-12.065,0.953) 71(-13.335,2.857) 72(-14.605,0.953) 73(-15.875,2.857) 74(-17.145,0.953) 75(-18.415,2.857) 76(-19.685,0.953) 77(-20.955,2.857) 78(-22.225,0.953) 79(-23.495,2.857) 80(-24.765,0.953)
  round 4.3 hole 2.8: 81(-32.775,0) 82(32.775,0)
Top Overlay:
  circle w0.25: c-24.765,-5.25 r0.125
  lines w0.2: -35.725,-4.6 35.725,-4.6 35.725,4.6 -35.725,4.6 -35.725,-4.6
  text "41" at 25.84,2.107 h1.5
  text "80" at -28.34,0.202 h1.5
  text "39" at 24.57,-3.608 h1.5
  text "1" at -26.34,-3.608 h1.5

## 1-175925-0 [mm] "Connector; CHAMP Miniature Ribbon 050 Series II; 80 Position; Vertical"
height 11.1
pads (82):
  rect 1.4x1.4 hole 0.8: 1(-24.765,-2.857)
  round 1.4 hole 0.8: 2(-23.495,-0.953) 3(-22.225,-2.857) 4(-20.955,-0.953) 5(-19.685,-2.857) 6(-18.415,-0.953) 7(-17.145,-2.857) 8(-15.875,-0.953) 9(-14.605,-2.857) 10(-13.335,-0.953) 11(-12.065,-2.857) 12(-10.795,-0.953) 13(-9.525,-2.857) 14(-8.255,-0.953) 15(-6.985,-2.857) 16(-5.715,-0.953) 17(-4.445,-2.857) 18(-3.175,-0.953) 19(-1.905,-2.857) 20(-0.635,-0.953) 21(0.635,-2.857) 22(1.905,-0.953) 23(3.175,-2.857) 24(4.445,-0.953) 25(5.715,-2.857) 26(6.985,-0.953) 27(8.255,-2.857) 28(9.525,-0.953) 29(10.795,-2.857) 30(12.065,-0.953) 31(13.335,-2.857) 32(14.605,-0.953) 33(15.875,-2.857) 34(17.145,-0.953) 35(18.415,-2.857) 36(19.685,-0.953) 37(20.955,-2.857) 38(22.225,-0.953) 39(23.495,-2.857) 40(24.765,-0.953) 41(24.765,2.857) 42(23.495,0.953) 43(22.225,2.857) 44(20.955,0.953) 45(19.685,2.857) 46(18.415,0.953) 47(17.145,2.857) 48(15.875,0.953) 49(14.605,2.857) 50(13.335,0.953) 51(12.065,2.857) 52(10.795,0.953) 53(9.525,2.857) 54(8.255,0.953) 55(6.985,2.857) 56(5.715,0.953) 57(4.445,2.857) 58(3.175,0.953) 59(1.905,2.857) 60(0.635,0.953) 61(-0.635,2.857) 62(-1.905,0.953) 63(-3.175,2.857) 64(-4.445,0.953) 65(-5.715,2.857) 66(-6.985,0.953) 67(-8.255,2.857) 68(-9.525,0.953) 69(-10.795,2.857) 70(-12.065,0.953) 71(-13.335,2.857) 72(-14.605,0.953) 73(-15.875,2.857) 74(-17.145,0.953) 75(-18.415,2.857) 76(-19.685,0.953) 77(-20.955,2.857) 78(-22.225,0.953) 79(-23.495,2.857) 80(-24.765,0.953)
  round 4.3 hole 2.8: 81(-32.775,0) 82(32.775,0)
Top Overlay:
  circle w0.25: c-24.765,-5.25 r0.125
  lines w0.2: -35.725,-4.6 35.725,-4.6 35.725,4.6 -35.725,4.6 -35.725,-4.6
  text "41" at 25.84,2.107 h1.5
  text "80" at -28.34,0.202 h1.5
  text "39" at 24.57,-3.608 h1.5
  text "1" at -26.34,-3.608 h1.5

## 1-176970-0 [mm] "Connector; CHAMP Miniature Ribbon 050 Series II; 80 Position; Right Angle"
height 9.6
pads (82):
  rect 1.4x1.4 hole 0.8: 1(-24.765,-10.5)
  round 1.4 hole 0.8: 2(-23.495,-8.595) 3(-22.225,-10.5) 4(-20.955,-8.595) 5(-19.685,-10.5) 6(-18.415,-8.595) 7(-17.145,-10.5) 8(-15.875,-8.595) 9(-14.605,-10.5) 10(-13.335,-8.595) 11(-12.065,-10.5) 12(-10.795,-8.595) 13(-9.525,-10.5) 14(-8.255,-8.595) 15(-6.985,-10.5) 16(-5.715,-8.595) 17(-4.445,-10.5) 18(-3.175,-8.595) 19(-1.905,-10.5) 20(-0.635,-8.595) 21(0.635,-10.5) 22(1.905,-8.595) 23(3.175,-10.5) 24(4.445,-8.595) 25(5.715,-10.5) 26(6.985,-8.595) 27(8.255,-10.5) 28(9.525,-8.595) 29(10.795,-10.5) 30(12.065,-8.595) 31(13.335,-10.5) 32(14.605,-8.595) 33(15.875,-10.5) 34(17.145,-8.595) 35(18.415,-10.5) 36(19.685,-8.595) 37(20.955,-10.5) 38(22.225,-8.595) 39(23.495,-10.5) 40(24.765,-8.595) 41(24.765,-4.785) 42(23.495,-6.69) 43(22.225,-4.785) 44(20.955,-6.69) 45(19.685,-4.785) 46(18.415,-6.69) 47(17.145,-4.785) 48(15.875,-6.69) 49(14.605,-4.785) 50(13.335,-6.69) 51(12.065,-4.785) 52(10.795,-6.69) 53(9.525,-4.785) 54(8.255,-6.69) 55(6.985,-4.785) 56(5.715,-6.69) 57(4.445,-4.785) 58(3.175,-6.69) 59(1.905,-4.785) 60(0.635,-6.69) 61(-0.635,-4.785) 62(-1.905,-6.69) 63(-3.175,-4.785) 64(-4.445,-6.69) 65(-5.715,-4.785) 66(-6.985,-6.69) 67(-8.255,-4.785) 68(-9.525,-6.69) 69(-10.795,-4.785) 70(-12.065,-6.69) 71(-13.335,-4.785) 72(-14.605,-6.69) 73(-15.875,-4.785) 74(-17.145,-6.69) 75(-18.415,-4.785) 76(-19.685,-6.69) 77(-20.955,-4.785) 78(-22.225,-6.69) 79(-23.495,-4.785) 80(-24.765,-6.69)
  round 5.5 hole 2.8: 81(-32.775,-8.595) 82(32.775,-8.595)
Top Overlay:
  lines w0.2: -35.725,-2.5 35.725,-2.5 ; -31.74,4.27 -30.8,4.898 -30.078,4.898 cw(c-30.18,4.5) -29.77,4.5 ; -31.726,4.255 ccw(c-31.5,4.01) -31.75,3.79 -30.87,3.79 -30.87,0 ; -29.77,4.52 -29.4,0 ; -28.66,0.005 ccw(c-28.66,0.7) -27.965,0.7 -27.965,4.5 ; -27.96,4.505 cw(c-27.265,4.505) -27.265,5.2 27.265,5.2 cw(c27.265,4.505) 27.96,4.505 ; -26.52,-11.8 -26.52,-2.58 ; 26.52,-11.8 26.52,-2.5 ; 27.965,4.5 27.965,0.7 ccw(c28.66,0.7) 28.66,0.005 ; 29.4,0 29.77,4.52 ; 29.77,4.5 cw(c30.18,4.5) 30.078,4.898 30.8,4.898 31.74,4.27 ; 30.87,0 30.87,3.79 31.75,3.79 ccw(c31.5,4.01) 31.726,4.255 ; -35.725,-11.8 35.725,-11.8 35.725,0 -35.725,0 -35.725,-11.8
  text "41" at 23.765,-2.025 h1.5
  text "80" at -26.015,-2.025 h1.5
  text "39" at 22.245,-13.775 h1.5
  text "1" at -25.015,-13.775 h1.5

## 1-176971-0 [mm] "Connector; CHAMP Miniature Ribbon 050 Series II; 80 Position; Right Angle"
height 9.6
pads (82):
  rect 1.4x1.4 hole 0.8: 1(-24.765,-10.5)
  round 1.4 hole 0.8: 2(-23.495,-8.595) 3(-22.225,-10.5) 4(-20.955,-8.595) 5(-19.685,-10.5) 6(-18.415,-8.595) 7(-17.145,-10.5) 8(-15.875,-8.595) 9(-14.605,-10.5) 10(-13.335,-8.595) 11(-12.065,-10.5) 12(-10.795,-8.595) 13(-9.525,-10.5) 14(-8.255,-8.595) 15(-6.985,-10.5) 16(-5.715,-8.595) 17(-4.445,-10.5) 18(-3.175,-8.595) 19(-1.905,-10.5) 20(-0.635,-8.595) 21(0.635,-10.5) 22(1.905,-8.595) 23(3.175,-10.5) 24(4.445,-8.595) 25(5.715,-10.5) 26(6.985,-8.595) 27(8.255,-10.5) 28(9.525,-8.595) 29(10.795,-10.5) 30(12.065,-8.595) 31(13.335,-10.5) 32(14.605,-8.595) 33(15.875,-10.5) 34(17.145,-8.595) 35(18.415,-10.5) 36(19.685,-8.595) 37(20.955,-10.5) 38(22.225,-8.595) 39(23.495,-10.5) 40(24.765,-8.595) 41(24.765,-4.785) 42(23.495,-6.69) 43(22.225,-4.785) 44(20.955,-6.69) 45(19.685,-4.785) 46(18.415,-6.69) 47(17.145,-4.785) 48(15.875,-6.69) 49(14.605,-4.785) 50(13.335,-6.69) 51(12.065,-4.785) 52(10.795,-6.69) 53(9.525,-4.785) 54(8.255,-6.69) 55(6.985,-4.785) 56(5.715,-6.69) 57(4.445,-4.785) 58(3.175,-6.69) 59(1.905,-4.785) 60(0.635,-6.69) 61(-0.635,-4.785) 62(-1.905,-6.69) 63(-3.175,-4.785) 64(-4.445,-6.69) 65(-5.715,-4.785) 66(-6.985,-6.69) 67(-8.255,-4.785) 68(-9.525,-6.69) 69(-10.795,-4.785) 70(-12.065,-6.69) 71(-13.335,-4.785) 72(-14.605,-6.69) 73(-15.875,-4.785) 74(-17.145,-6.69) 75(-18.415,-4.785) 76(-19.685,-6.69) 77(-20.955,-4.785) 78(-22.225,-6.69) 79(-23.495,-4.785) 80(-24.765,-6.69)
  round 5.5 hole 2.8: 81(-32.775,-8.595) 82(32.775,-8.595)
Top Overlay:
  lines w0.2: -35.725,-2.5 35.725,-2.5 ; -31.74,4.27 -30.8,4.898 -30.078,4.898 cw(c-30.18,4.5) -29.77,4.5 ; -31.726,4.255 ccw(c-31.5,4.01) -31.75,3.79 -30.87,3.79 -30.87,0 ; -29.77,4.52 -29.4,0 ; -28.66,0.005 ccw(c-28.66,0.7) -27.965,0.7 -27.965,4.5 ; -27.96,4.505 cw(c-27.265,4.505) -27.265,5.2 27.265,5.2 cw(c27.265,4.505) 27.96,4.505 ; -26.52,-11.8 -26.52,-2.58 ; 26.52,-11.8 26.52,-2.5 ; 27.965,4.5 27.965,0.7 ccw(c28.66,0.7) 28.66,0.005 ; 29.4,0 29.77,4.52 ; 29.77,4.5 cw(c30.18,4.5) 30.078,4.898 30.8,4.898 31.74,4.27 ; 30.87,0 30.87,3.79 31.75,3.79 ccw(c31.5,4.01) 31.726,4.255 ; -35.725,-11.8 35.725,-11.8 35.725,0 -35.725,0 -35.725,-11.8
  text "41" at 23.765,-2.025 h1.5
  text "80" at -26.015,-2.025 h1.5
  text "39" at 22.245,-13.775 h1.5
  text "1" at -25.015,-13.775 h1.5

## 1-176972-0 [mm] "Connector; CHAMP Miniature Ribbon 050 Series II; 80 Position; Right Angle"
height 9.6
pads (82):
  rect 1.4x1.4 hole 0.8: 1(-24.765,-10.5)
  round 1.4 hole 0.8: 2(-23.495,-8.595) 3(-22.225,-10.5) 4(-20.955,-8.595) 5(-19.685,-10.5) 6(-18.415,-8.595) 7(-17.145,-10.5) 8(-15.875,-8.595) 9(-14.605,-10.5) 10(-13.335,-8.595) 11(-12.065,-10.5) 12(-10.795,-8.595) 13(-9.525,-10.5) 14(-8.255,-8.595) 15(-6.985,-10.5) 16(-5.715,-8.595) 17(-4.445,-10.5) 18(-3.175,-8.595) 19(-1.905,-10.5) 20(-0.635,-8.595) 21(0.635,-10.5) 22(1.905,-8.595) 23(3.175,-10.5) 24(4.445,-8.595) 25(5.715,-10.5) 26(6.985,-8.595) 27(8.255,-10.5) 28(9.525,-8.595) 29(10.795,-10.5) 30(12.065,-8.595) 31(13.335,-10.5) 32(14.605,-8.595) 33(15.875,-10.5) 34(17.145,-8.595) 35(18.415,-10.5) 36(19.685,-8.595) 37(20.955,-10.5) 38(22.225,-8.595) 39(23.495,-10.5) 40(24.765,-8.595) 41(24.765,-4.785) 42(23.495,-6.69) 43(22.225,-4.785) 44(20.955,-6.69) 45(19.685,-4.785) 46(18.415,-6.69) 47(17.145,-4.785) 48(15.875,-6.69) 49(14.605,-4.785) 50(13.335,-6.69) 51(12.065,-4.785) 52(10.795,-6.69) 53(9.525,-4.785) 54(8.255,-6.69) 55(6.985,-4.785) 56(5.715,-6.69) 57(4.445,-4.785) 58(3.175,-6.69) 59(1.905,-4.785) 60(0.635,-6.69) 61(-0.635,-4.785) 62(-1.905,-6.69) 63(-3.175,-4.785) 64(-4.445,-6.69) 65(-5.715,-4.785) 66(-6.985,-6.69) 67(-8.255,-4.785) 68(-9.525,-6.69) 69(-10.795,-4.785) 70(-12.065,-6.69) 71(-13.335,-4.785) 72(-14.605,-6.69) 73(-15.875,-4.785) 74(-17.145,-6.69) 75(-18.415,-4.785) 76(-19.685,-6.69) 77(-20.955,-4.785) 78(-22.225,-6.69) 79(-23.495,-4.785) 80(-24.765,-6.69)
  round 5.5 hole 2.8: 81(-32.775,-8.595) 82(32.775,-8.595)
Top Overlay:
  lines w0.2: -35.725,-2.5 35.725,-2.5 ; -31.74,4.27 -30.8,4.898 -30.078,4.898 cw(c-30.18,4.5) -29.77,4.5 ; -31.726,4.255 ccw(c-31.5,4.01) -31.75,3.79 -30.87,3.79 -30.87,0 ; -29.77,4.52 -29.4,0 ; -28.66,0.005 ccw(c-28.66,0.7) -27.965,0.7 -27.965,4.5 ; -27.96,4.505 cw(c-27.265,4.505) -27.265,5.2 27.265,5.2 cw(c27.265,4.505) 27.96,4.505 ; -26.52,-11.8 -26.52,-2.58 ; 26.52,-11.8 26.52,-2.5 ; 27.965,4.5 27.965,0.7 ccw(c28.66,0.7) 28.66,0.005 ; 29.4,0 29.77,4.52 ; 29.77,4.5 cw(c30.18,4.5) 30.078,4.898 30.8,4.898 31.74,4.27 ; 30.87,0 30.87,3.79 31.75,3.79 ccw(c31.5,4.01) 31.726,4.255 ; -35.725,-11.8 35.725,-11.8 35.725,0 -35.725,0 -35.725,-11.8
  text "41" at 23.765,-2.025 h1.5
  text "80" at -26.015,-2.025 h1.5
  text "39" at 22.245,-13.775 h1.5
  text "1" at -25.015,-13.775 h1.5

## 1-178238-0 [mm] "Connector; CHAMP Miniature Ribbon 050 Series II; 80 Position; Right Angle"
height 9.6
pads (82):
  rect 1.4x1.4 hole 0.8: 1(-24.765,-10.5)
  round 1.4 hole 0.8: 2(-23.495,-8.595) 3(-22.225,-10.5) 4(-20.955,-8.595) 5(-19.685,-10.5) 6(-18.415,-8.595) 7(-17.145,-10.5) 8(-15.875,-8.595) 9(-14.605,-10.5) 10(-13.335,-8.595) 11(-12.065,-10.5) 12(-10.795,-8.595) 13(-9.525,-10.5) 14(-8.255,-8.595) 15(-6.985,-10.5) 16(-5.715,-8.595) 17(-4.445,-10.5) 18(-3.175,-8.595) 19(-1.905,-10.5) 20(-0.635,-8.595) 21(0.635,-10.5) 22(1.905,-8.595) 23(3.175,-10.5) 24(4.445,-8.595) 25(5.715,-10.5) 26(6.985,-8.595) 27(8.255,-10.5) 28(9.525,-8.595) 29(10.795,-10.5) 30(12.065,-8.595) 31(13.335,-10.5) 32(14.605,-8.595) 33(15.875,-10.5) 34(17.145,-8.595) 35(18.415,-10.5) 36(19.685,-8.595) 37(20.955,-10.5) 38(22.225,-8.595) 39(23.495,-10.5) 40(24.765,-8.595) 41(24.765,-4.785) 42(23.495,-6.69) 43(22.225,-4.785) 44(20.955,-6.69) 45(19.685,-4.785) 46(18.415,-6.69) 47(17.145,-4.785) 48(15.875,-6.69) 49(14.605,-4.785) 50(13.335,-6.69) 51(12.065,-4.785) 52(10.795,-6.69) 53(9.525,-4.785) 54(8.255,-6.69) 55(6.985,-4.785) 56(5.715,-6.69) 57(4.445,-4.785) 58(3.175,-6.69) 59(1.905,-4.785) 60(0.635,-6.69) 61(-0.635,-4.785) 62(-1.905,-6.69) 63(-3.175,-4.785) 64(-4.445,-6.69) 65(-5.715,-4.785) 66(-6.985,-6.69) 67(-8.255,-4.785) 68(-9.525,-6.69) 69(-10.795,-4.785) 70(-12.065,-6.69) 71(-13.335,-4.785) 72(-14.605,-6.69) 73(-15.875,-4.785) 74(-17.145,-6.69) 75(-18.415,-4.785) 76(-19.685,-6.69) 77(-20.955,-4.785) 78(-22.225,-6.69) 79(-23.495,-4.785) 80(-24.765,-6.69)
  round 5.5 hole 2.8: 81(-32.775,-8.595) 82(32.775,-8.595)
Top Overlay:
  lines w0.2: -35.725,-2.5 35.725,-2.5 ; -31.74,4.27 -30.8,4.898 -30.078,4.898 cw(c-30.18,4.5) -29.77,4.5 ; -31.726,4.255 ccw(c-31.5,4.01) -31.75,3.79 -30.87,3.79 -30.87,0 ; -29.77,4.52 -29.4,0 ; -28.66,0.005 ccw(c-28.66,0.7) -27.965,0.7 -27.965,4.5 ; -27.96,4.505 cw(c-27.265,4.505) -27.265,5.2 27.265,5.2 cw(c27.265,4.505) 27.96,4.505 ; -26.52,-11.8 -26.52,-2.58 ; 26.52,-11.8 26.52,-2.5 ; 27.965,4.5 27.965,0.7 ccw(c28.66,0.7) 28.66,0.005 ; 29.4,0 29.77,4.52 ; 29.77,4.5 cw(c30.18,4.5) 30.078,4.898 30.8,4.898 31.74,4.27 ; 30.87,0 30.87,3.79 31.75,3.79 ccw(c31.5,4.01) 31.726,4.255 ; -35.725,-11.8 35.725,-11.8 35.725,0 -35.725,0 -35.725,-11.8
  text "41" at 23.765,-2.025 h1.5
  text "80" at -26.015,-2.025 h1.5
  text "39" at 22.245,-13.775 h1.5
  text "1" at -25.015,-13.775 h1.5

## 1-178239-0 [mm] "Connector; CHAMP Miniature Ribbon 050 Series II; 80 Position; Right Angle"
height 9.6
pads (82):
  rect 1.4x1.4 hole 0.8: 1(-24.765,-10.5)
  round 1.4 hole 0.8: 2(-23.495,-8.595) 3(-22.225,-10.5) 4(-20.955,-8.595) 5(-19.685,-10.5) 6(-18.415,-8.595) 7(-17.145,-10.5) 8(-15.875,-8.595) 9(-14.605,-10.5) 10(-13.335,-8.595) 11(-12.065,-10.5) 12(-10.795,-8.595) 13(-9.525,-10.5) 14(-8.255,-8.595) 15(-6.985,-10.5) 16(-5.715,-8.595) 17(-4.445,-10.5) 18(-3.175,-8.595) 19(-1.905,-10.5) 20(-0.635,-8.595) 21(0.635,-10.5) 22(1.905,-8.595) 23(3.175,-10.5) 24(4.445,-8.595) 25(5.715,-10.5) 26(6.985,-8.595) 27(8.255,-10.5) 28(9.525,-8.595) 29(10.795,-10.5) 30(12.065,-8.595) 31(13.335,-10.5) 32(14.605,-8.595) 33(15.875,-10.5) 34(17.145,-8.595) 35(18.415,-10.5) 36(19.685,-8.595) 37(20.955,-10.5) 38(22.225,-8.595) 39(23.495,-10.5) 40(24.765,-8.595) 41(24.765,-4.785) 42(23.495,-6.69) 43(22.225,-4.785) 44(20.955,-6.69) 45(19.685,-4.785) 46(18.415,-6.69) 47(17.145,-4.785) 48(15.875,-6.69) 49(14.605,-4.785) 50(13.335,-6.69) 51(12.065,-4.785) 52(10.795,-6.69) 53(9.525,-4.785) 54(8.255,-6.69) 55(6.985,-4.785) 56(5.715,-6.69) 57(4.445,-4.785) 58(3.175,-6.69) 59(1.905,-4.785) 60(0.635,-6.69) 61(-0.635,-4.785) 62(-1.905,-6.69) 63(-3.175,-4.785) 64(-4.445,-6.69) 65(-5.715,-4.785) 66(-6.985,-6.69) 67(-8.255,-4.785) 68(-9.525,-6.69) 69(-10.795,-4.785) 70(-12.065,-6.69) 71(-13.335,-4.785) 72(-14.605,-6.69) 73(-15.875,-4.785) 74(-17.145,-6.69) 75(-18.415,-4.785) 76(-19.685,-6.69) 77(-20.955,-4.785) 78(-22.225,-6.69) 79(-23.495,-4.785) 80(-24.765,-6.69)
  round 5.5 hole 2.8: 81(-32.775,-8.595) 82(32.775,-8.595)
Top Overlay:
  lines w0.2: -35.725,-2.5 35.725,-2.5 ; -31.74,4.27 -30.8,4.898 -30.078,4.898 cw(c-30.18,4.5) -29.77,4.5 ; -31.726,4.255 ccw(c-31.5,4.01) -31.75,3.79 -30.87,3.79 -30.87,0 ; -29.77,4.52 -29.4,0 ; -28.66,0.005 ccw(c-28.66,0.7) -27.965,0.7 -27.965,4.5 ; -27.96,4.505 cw(c-27.265,4.505) -27.265,5.2 27.265,5.2 cw(c27.265,4.505) 27.96,4.505 ; -26.52,-11.8 -26.52,-2.58 ; 26.52,-11.8 26.52,-2.5 ; 27.965,4.5 27.965,0.7 ccw(c28.66,0.7) 28.66,0.005 ; 29.4,0 29.77,4.52 ; 29.77,4.5 cw(c30.18,4.5) 30.078,4.898 30.8,4.898 31.74,4.27 ; 30.87,0 30.87,3.79 31.75,3.79 ccw(c31.5,4.01) 31.726,4.255 ; -35.725,-11.8 35.725,-11.8 35.725,0 -35.725,0 -35.725,-11.8
  text "41" at 23.765,-2.025 h1.5
  text "80" at -26.015,-2.025 h1.5
  text "39" at 22.245,-13.775 h1.5
  text "1" at -25.015,-13.775 h1.5